# EAGLE library part RW1A025APT2CR (library RW1A025APT2CR)
ROHM RW1A025APT2CR P-channel MOSFET, 2.5 A, 12 V RW1A025AP, 6-Pin SOT-563T Source: Datasheet <https://www.rohm.com/datasheet/RW1A025AP/rw1a025ap-e>
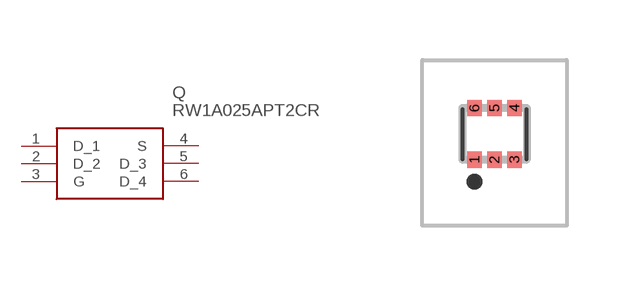
[diagram p0: symbol with the pads of RW1A025APT2CR; footprint RW1A025APT2CR]

Designator prefix Q

## RW1A025APT2CR (Description: ROHM RW1A025APT2CR P-channel MOSFET, 2.5 A, 12 V RW1A025AP, 6-Pin SOT-563T; Height: 0mm; Manufacturer_Name: ROHM Semiconductor; Manufacturer_Part_Number: RW1A025APT2CR; Mouser_Part_Number: 755-RW1A025APT2CR; Mouser_Price-Stock: https://www.mouser.com/Search/Refine.aspx?Keyword=755-RW1A025APT2CR; RS_Part_Number: 1332852; RS_Price-Stock: http://uk.rs-online.com/web/p/products/1332852)  [RW1A025APT2CR]
1  D_1
2  D_2
3  G
4  S
5  D_3
6  D_4

## Footprint RW1A025APT2CR (pad centres in mm)
SOT-563T (WEMT6)
smd 0.37 x 0.41: 1 -0.5,-0.32; 2 0,-0.32; 3 0.5,-0.32; 4 0.5,0.97; 5 0,0.97; 6 -0.5,0.97